# EAGLE library part LL1545E (library lundahl)
LL1545E
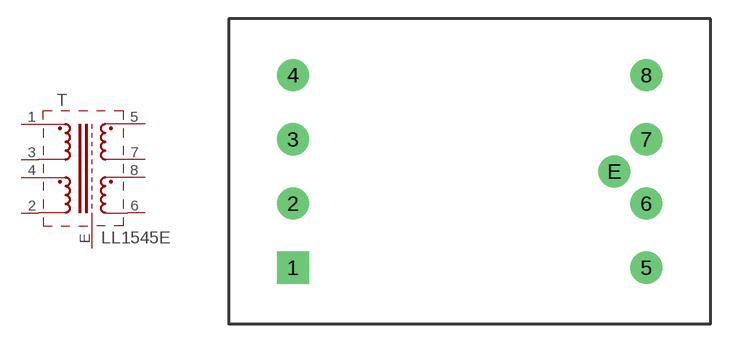
[diagram p31: symbol with the pads of LL1545E; footprint LL1545E]

Designator prefix T

## LL1545E  [LL1545E]
1  1  pas
2  2  pas
3  3  pas
4  4  pas
5  5  pas
6  6  pas
7  7  pas
8  8  pas
E  E  pas

## Footprint LL1545E (pad centres in mm)
LL1545E
drill 1.422 pad 2.54 square: 1 -13.97,-7.62
drill 1.422 pad 2.54: 2 -13.97,-2.54; 3 -13.97,2.54; 4 -13.97,7.62; 5 13.97,-7.62; 6 13.97,-2.54; 7 13.97,2.54; 8 13.97,7.62; E 11.43,0